# Altium footprint library RESC160X80X65L35N.PcbLib: 1 footprints
Each footprint in its own frame and in the unit in brackets; x right, y up, seen from the top. Pads: shape width x height; smd on the part's side, far side on the other; paste and mask are expansions set on the pad; w line width, h text height; cw(c..) or ccw(c..) is an arc to the next point about the centre after c.
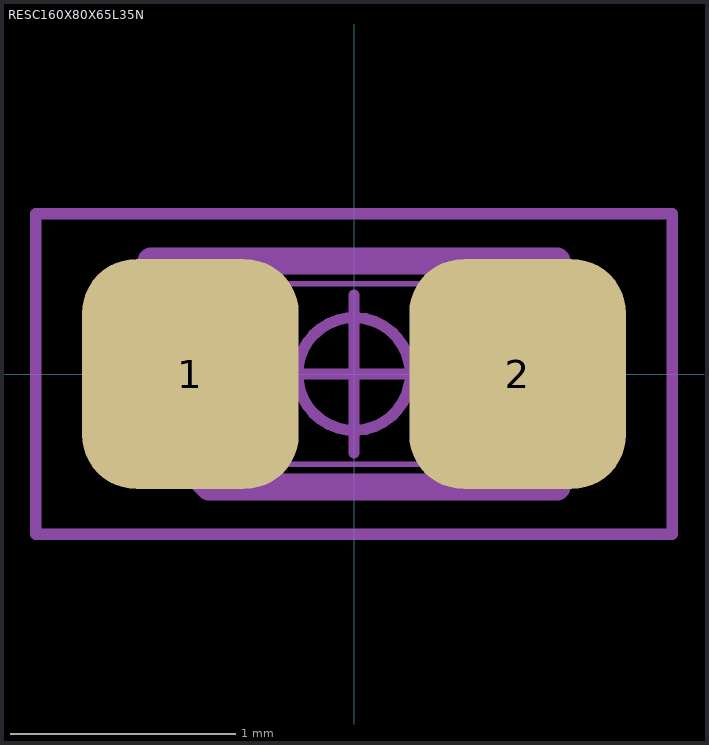
[diagram p0: the footprint, top view; thin cyan lines are the x and y axes]

## RESC160X80X65L35N [mm] "Resistor, Chip; 1.60 mm L X 0.80 mm W X 0.65 mm H body"
height 0.65
pads (2):
  rrect50% 0.96x1.02 smd: 1(-0.725,0) 2(0.725,0)
Mechanical 3:
  lines w0.12: -0.9,-0.243 -0.9,0.5 0.9,0.5 0.9,-0.5 -0.643,-0.5 -0.9,-0.243
Mechanical 5:
  lines w0.025: -0.8,-0.4 0.8,-0.4 ; -0.8,-0.4 -0.8,0.4 ; -0.8,-0.4 -0.8,0.4 ; -0.8,-0.4 -0.45,-0.4 -0.45,0.4 -0.8,0.4 ; -0.8,0.4 0.8,0.4 ; 0.8,-0.4 0.8,0.4 ; 0.8,-0.4 0.45,-0.4 0.45,0.4 0.8,0.4 ; 0.8,-0.4 0.8,0.4
Mechanical 7:
  circle w0.05: c0,0 r0.25
  lines w0.05: -0.35,0 0.35,0 ; 0,-0.35 0,0.35 ; -1.41,-0.71 1.41,-0.71 1.41,0.71 -1.41,0.71 -1.41,-0.71
Mechanical 9:
  text "'.Designator'" at -5.461,-0.381 h1
3D body "RESC160X80X65L35.STEP": height 0.65, standoff 0, extent -0.8,-0.4 0.8,0.4
3D body: height 22.61, standoff -7.34, extent -1.41,-0.71 1.41,0.71